# Altium schematic symbol library bme280.SchLib: 1 symbol
Pins are listed as number, name and electrical type; pins without a type are passive.

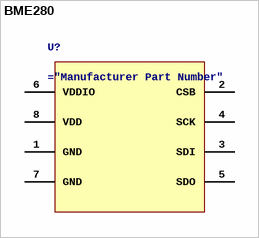
[diagram p0: symbol BME280]

## BME280
designator U?
Pressure, Temperature and Humidity Sensor Digital Output 1.8V 8-Pin LGA T/R
pins: 1 GND, 2 CSB, 3 SDI, 4 SCK, 5 SDO, 6 VDDIO, 7 GND, 8 VDD